# Altium footprint library DS1023-2x3S21.PcbLib: 1 footprints
Each footprint in its own frame and in the unit in brackets; x right, y up, seen from the top. Pads: shape width x height; smd on the part's side, far side on the other; paste and mask are expansions set on the pad; w line width, h text height; cw(c..) or ccw(c..) is an arc to the next point about the centre after c.
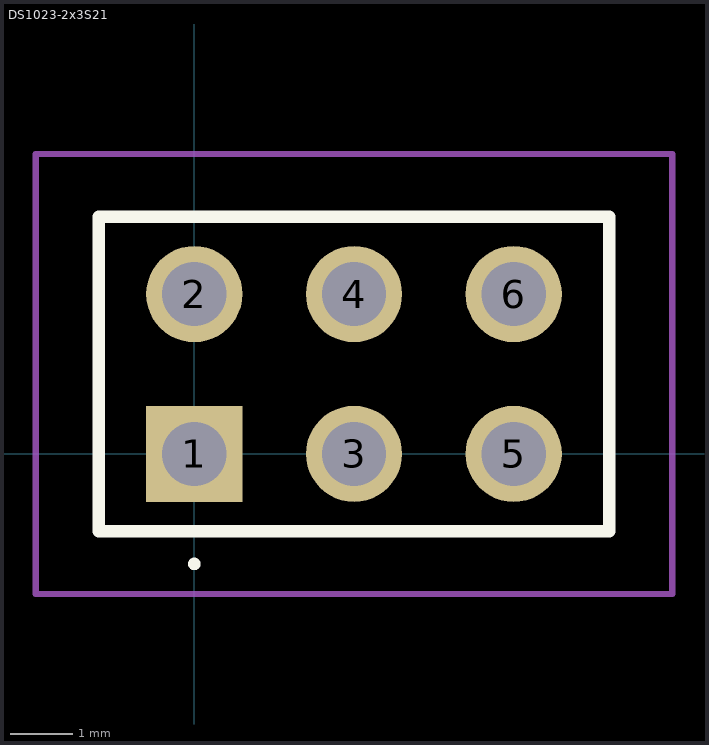
[diagram p0: the footprint, top view; thin cyan lines are the x and y axes]

## DS1023-2x3S21 [mm]
pads (6):
  rect 1.53x1.53 hole 1.02: 1(0,0)
  round 1.53 hole 1.02: 2(0,2.54) 3(2.54,0) 4(2.54,2.54) 5(5.08,0) 6(5.08,2.54)
Top Overlay:
  lines w0.1: 0,-1.8 cw(c0,-1.75) 0,-1.7 cw(c0,-1.75) 0,-1.8
  lines w0.2: -1.52,-1.23 -1.52,3.77 6.6,3.77 6.6,-1.23 -1.52,-1.23
Mechanical 13:
  lines w0.1: -1.52,-1.23 -1.52,3.77 6.6,3.77 6.6,-1.23 -1.52,-1.23
Mechanical 15:
  lines w0.1: -2.52,-2.23 -2.52,4.77 7.6,4.77 7.6,-2.23 -2.52,-2.23
3D body "PBD-6.step": height 8.5, standoff -3, extent -1.27,-1.27 6.35,3.81